# Altium footprint library my.PcbLib: 38 footprints (part 2 of 3)
Each footprint in its own frame and in the unit in brackets; x right, y up, seen from the top. Pads: shape width x height; smd on the part's side, far side on the other; paste and mask are expansions set on the pad; w line width, h text height; cw(c..) or ccw(c..) is an arc to the next point about the centre after c.
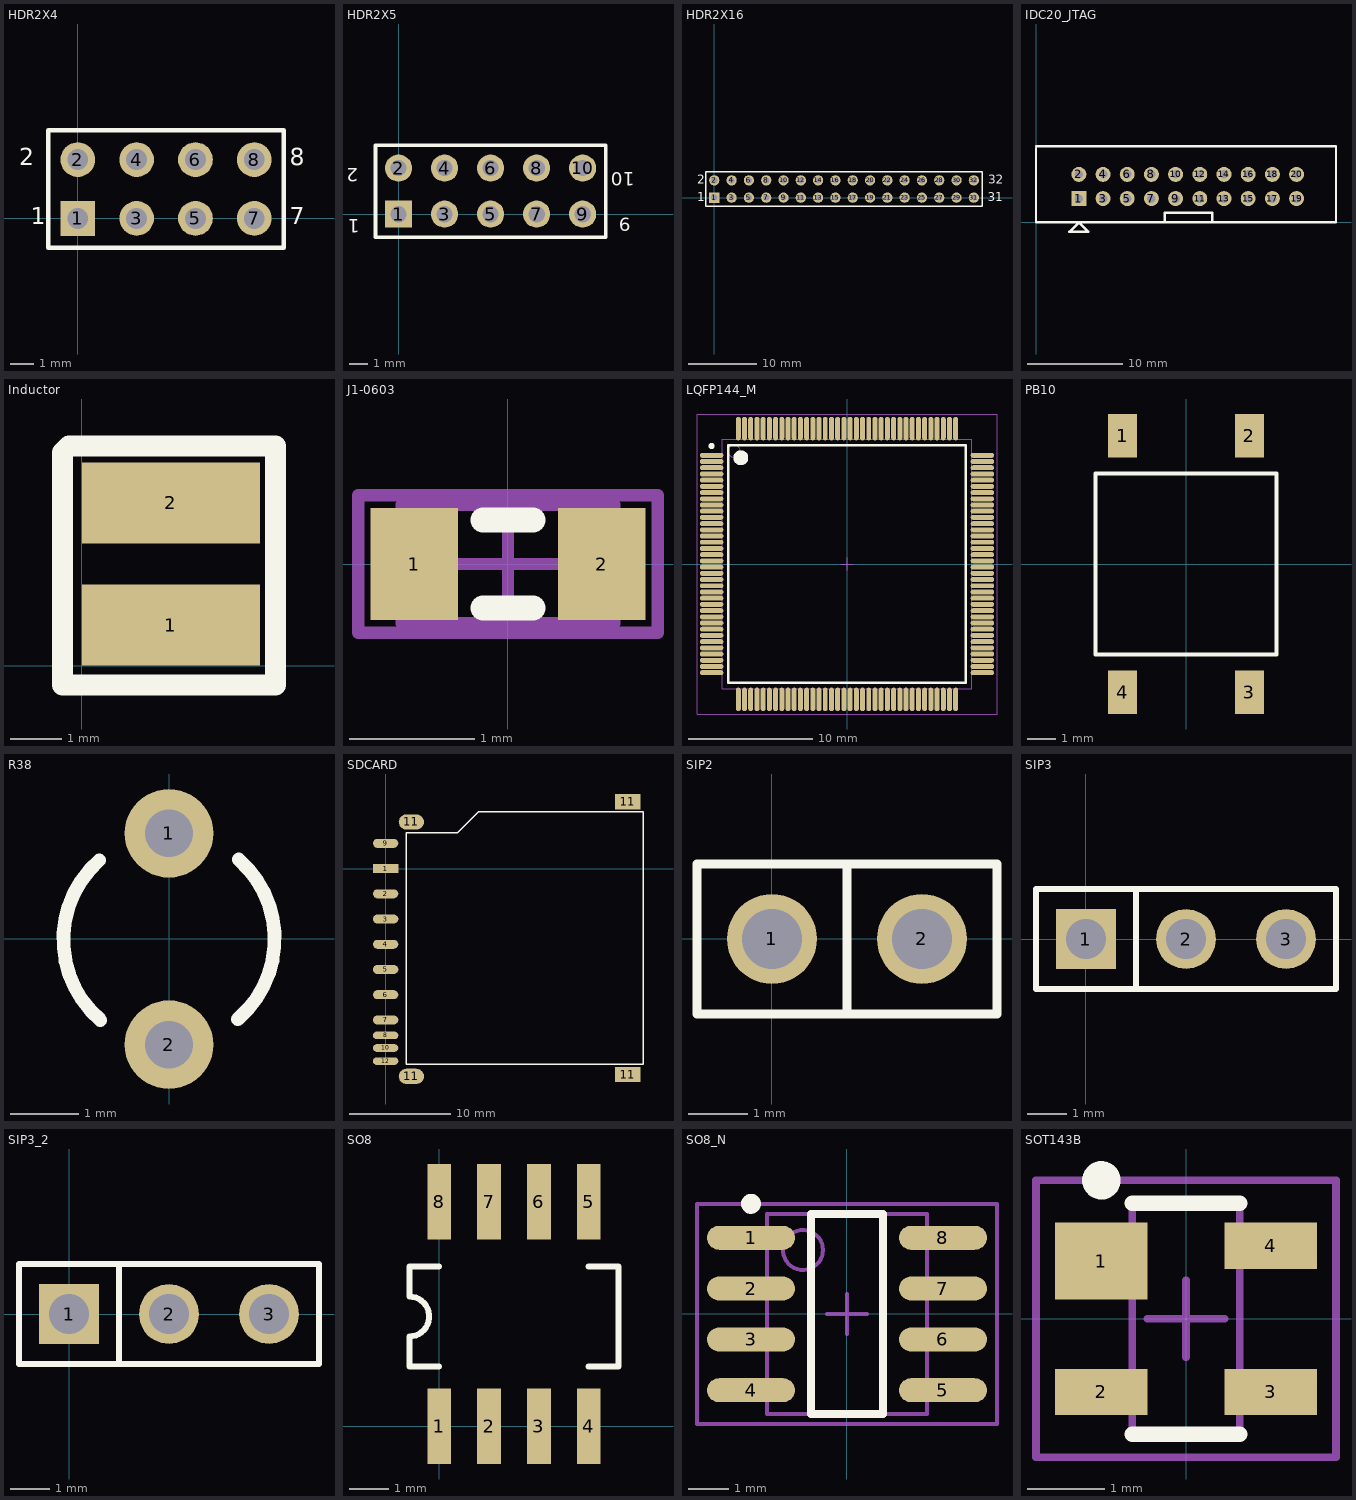
[diagram p1: the footprints below, top view; thin cyan lines are the x and y axes]

## HDR2X4 [mm] "Connector; Header; 4x2 Position"
pads (8):
  rect 1.5x1.5 hole 0.9: 1(0,0)
  round 1.5 hole 0.9: 2(0,2.54) 3(2.54,0) 4(2.54,2.54) 5(5.08,0) 6(5.08,2.54) 7(7.62,0) 8(7.62,2.54)
Top Overlay:
  lines w0.2: -1.27,-1.27 -1.27,3.81 8.89,3.81 8.89,-1.27 -1.27,-1.27
  text "8" at 9.144,2.032 h1.27
  text "7" at 9.144,-0.508 h1.27
  text "1" at -2.032,-0.508 h1.27
  text "2" at -2.54,2.032 h1.27

## HDR2X5 [mm] "Connector; Header; 5x2 Position"
pads (10):
  rect 1.5x1.5 hole 0.9: 1(0,0)
  round 1.5 hole 0.9: 2(0,2.54) 3(2.54,0) 4(2.54,2.54) 5(5.08,0) 6(5.08,2.54) 7(7.62,0) 8(7.62,2.54) 9(10.16,0) 10(10.16,2.54)
Top Overlay:
  lines w0.2: -1.27,-1.27 11.43,-1.27 11.43,3.81 -1.27,3.81 -1.27,-1.27
  text "10" at 13.051,2.561 h1.27
  text "9" at 12.811,0.041 h1.27
  text "1" at -2.139,-0.029 h1.27
  text "2" at -2.239,2.771 h1.27

## HDR2X16 [mm] "Connector; Header; 16x2 Position"
pads (32):
  rect 1.5x1.5 hole 0.9: 1(0,0)
  round 1.5 hole 0.9: 2(0,2.54) 3(2.54,0) 4(2.54,2.54) 5(5.08,0) 6(5.08,2.54) 7(7.62,0) 8(7.62,2.54) 9(10.16,0) 10(10.16,2.54) 11(12.7,0) 12(12.7,2.54) 13(15.24,0) 14(15.24,2.54) 15(17.78,0) 16(17.78,2.54) 17(20.32,0) 18(20.32,2.54) 19(22.86,0) 20(22.86,2.54) 21(25.4,0) 22(25.4,2.54) 23(27.94,0) 24(27.94,2.54) 25(30.48,0) 26(30.48,2.54) 27(33.02,0) 28(33.02,2.54) 29(35.56,0) 30(35.56,2.54) 31(38.1,0) 32(38.1,2.54)
Top Overlay:
  lines w0.2: -1.27,-1.27 39.37,-1.27 39.37,3.81 -1.27,3.81 -1.27,-1.27
  text "2" at -2.54,2.032 h1.27
  text "1" at -2.54,-0.508 h1.27
  text "31" at 40.111,-0.547 h1.27
  text "32" at 40.231,2.023 h1.27

## IDC20_JTAG [mil] "for 20-pin JTAG"
pads (20):
  rect 62x62 hole 35: 1(177.16,98.43)
  round 62 hole 35: 2(177.16,198.43) 3(277.16,98.43) 4(277.16,198.43) 5(377.16,98.43) 6(377.16,198.43) 7(477.16,98.43) 8(477.16,198.43) 9(577.16,98.43) 10(577.16,198.43) 11(677.16,98.43) 12(677.16,198.43) 13(777.16,98.43) 14(777.16,198.43) 15(877.16,98.43) 16(877.16,198.43) 17(977.16,98.43) 18(977.16,198.43) 19(1077.16,98.43) 20(1077.16,198.43)
Top Overlay:
  lines w10: 0,307.09 0,0 1240.16,0 1240.16,98.43 1240.16,216.54 1240.16,314.96 0,314.96 ; 531.5,0 531.5,39.37 728.35,39.37 728.35,0 ; 137.79,-39.37 196.85,-39.37 216.53,-39.37 177.16,0 137.79,-39.37

## Inductor [mm]
pads (2):
  rect 3.5x1.6 smd: 1(1.75,0.8) 2(1.75,3.2)
Top Overlay:
  lines w0.41: -0.381,-0.381 -0.381,4.191 -0.254,4.318 3.81,4.318 3.81,-0.381 -0.381,-0.381

## J1-0603 [mm] "Chip Resistor, Body 1.6x0.8mm, IPC High Density"
height 0.9
pads (2):
  rect 0.7x0.9 smd: 1(-0.75,0) 2(0.75,0)
Top Overlay:
  lines w0.2: -0.2,-0.35 0.2,-0.35 ; -0.2,0.35 0.2,0.35
Mechanical 13:
  lines w0.1: -0.85,-0.475 0.85,-0.475 0.85,0.475 -0.85,0.475 -0.85,-0.475
Mechanical 15:
  lines w0.1: -0.475,0 0.475,0 ; 0,-0.475 0,0.475 ; -1.2,-0.55 1.2,-0.55 1.2,0.55 -1.2,0.55 -1.2,-0.55
3D body: height 0.9, standoff 0, extent -0.85,-0.475 0.85,0.475

## LQFP144_M [mm] "TSQFP, 144-Leads, Body 23.0x23.0mm (max), Pitch 0.50mm, IPC Medium Density"
height 1.6
pads (144):
  oval 1.9x0.4 smd: 1(-10.9,8.75) 2(-10.9,8.25) 3(-10.9,7.75) 4(-10.9,7.25) 5(-10.9,6.75) 6(-10.9,6.25) 7(-10.9,5.75) 8(-10.9,5.25) 9(-10.9,4.75) 10(-10.9,4.25) 11(-10.9,3.75) 12(-10.9,3.25) 13(-10.9,2.75) 14(-10.9,2.25) 15(-10.9,1.75) 16(-10.9,1.25) 17(-10.9,0.75) 18(-10.9,0.25) 19(-10.9,-0.25) 20(-10.9,-0.75) 21(-10.9,-1.25) 22(-10.9,-1.75) 23(-10.9,-2.25) 24(-10.9,-2.75) 25(-10.9,-3.25) 26(-10.9,-3.75) 27(-10.9,-4.25) 28(-10.9,-4.75) 29(-10.9,-5.25) 30(-10.9,-5.75) 31(-10.9,-6.25) 32(-10.9,-6.75) 33(-10.9,-7.25) 34(-10.9,-7.75) 35(-10.9,-8.25) 36(-10.9,-8.75) 73(10.9,-8.75) 74(10.9,-8.25) 75(10.9,-7.75) 76(10.9,-7.25) 77(10.9,-6.75) 78(10.9,-6.25) 79(10.9,-5.75) 80(10.9,-5.25) 81(10.9,-4.75) 82(10.9,-4.25) 83(10.9,-3.75) 84(10.9,-3.25) 85(10.9,-2.75) 86(10.9,-2.25) 87(10.9,-1.75) 88(10.9,-1.25) 89(10.9,-0.75) 90(10.9,-0.25) 91(10.9,0.25) 92(10.9,0.75) 93(10.9,1.25) 94(10.9,1.75) 95(10.9,2.25) 96(10.9,2.75) 97(10.9,3.25) 98(10.9,3.75) 99(10.9,4.25) 100(10.9,4.75) 101(10.9,5.25) 102(10.9,5.75) 103(10.9,6.25) 104(10.9,6.75) 105(10.9,7.25) 106(10.9,7.75) 107(10.9,8.25) 108(10.9,8.75)
  oval 0.4x1.9 smd: 37(-8.75,-10.9) 38(-8.25,-10.9) 39(-7.75,-10.9) 40(-7.25,-10.9) 41(-6.75,-10.9) 42(-6.25,-10.9) 43(-5.75,-10.9) 44(-5.25,-10.9) 45(-4.75,-10.9) 46(-4.25,-10.9) 47(-3.75,-10.9) 48(-3.25,-10.9) 49(-2.75,-10.9) 50(-2.25,-10.9) 51(-1.75,-10.9) 52(-1.25,-10.9) 53(-0.75,-10.9) 54(-0.25,-10.9) 55(0.25,-10.9) 56(0.75,-10.9) 57(1.25,-10.9) 58(1.75,-10.9) 59(2.25,-10.9) 60(2.75,-10.9) 61(3.25,-10.9) 62(3.75,-10.9) 63(4.25,-10.9) 64(4.75,-10.9) 65(5.25,-10.9) 66(5.75,-10.9) 67(6.25,-10.9) 68(6.75,-10.9) 69(7.25,-10.9) 70(7.75,-10.9) 71(8.25,-10.9) 72(8.75,-10.9) 109(8.75,10.9) 110(8.25,10.9) 111(7.75,10.9) 112(7.25,10.9) 113(6.75,10.9) 114(6.25,10.9) 115(5.75,10.9) 116(5.25,10.9) 117(4.75,10.9) 118(4.25,10.9) 119(3.75,10.9) 120(3.25,10.9) 121(2.75,10.9) 122(2.25,10.9) 123(1.75,10.9) 124(1.25,10.9) 125(0.75,10.9) 126(0.25,10.9) 127(-0.25,10.9) 128(-0.75,10.9) 129(-1.25,10.9) 130(-1.75,10.9) 131(-2.25,10.9) 132(-2.75,10.9) 133(-3.25,10.9) 134(-3.75,10.9) 135(-4.25,10.9) 136(-4.75,10.9) 137(-5.25,10.9) 138(-5.75,10.9) 139(-6.25,10.9) 140(-6.75,10.9) 141(-7.25,10.9) 142(-7.75,10.9) 143(-8.25,10.9) 144(-8.75,10.9)
Top Overlay:
  circle w0.6: c-8.55,8.55 r0.3
  circle w0.25: c-10.9,9.5 r0.125
  lines w0.2: -9.55,-9.55 9.55,-9.55 9.55,9.55 -9.55,9.55 -9.55,-9.55
Mechanical 13:
  circle w0.1: c-9.1,9.1 r0.5
  lines w0.1: -10.05,-10.05 10.05,-10.05 10.05,10.05 -10.05,10.05 -10.05,-10.05
Mechanical 15:
  lines w0.1: -0.5,0 0.5,0 ; 0,-0.5 0,0.5 ; -12.075,-12.075 12.075,-12.075 12.075,12.075 -12.075,12.075 -12.075,-12.075
3D body: height 1.6, standoff 0.05, extent -10.05,-10.05 10.05,10.05

## PB10 [mil]
pads (4):
  rect 40x60 smd: 1(-87.5,177.17) 2(87.5,177.17) 3(87.5,-177.16) 4(-87.5,-177.16)
Top Overlay:
  lines w6: -125,-125 -125,125 125,125 125,-125 -125,-125

## R38 [mm] "Crystal, Thru-Hole; 2 Leads; Body 3.1 x 8.2 mm (Dia.xH)"
height 8.2
pads (2):
  round 1.3 hole 0.7: 1(0,1.55) 2(0,-1.55)
Top Overlay:
  lines w0.2: -1.022,1.155 ccw(c0,-0.01) -1.006,-1.189 ; 1.006,-1.179 ccw(c0,0) 1.022,1.165

## SDCARD [mil]
pads (15):
  rect 98.42x35 smd: 1(0,0)
  oval 98.43x35 smd: 2(0,-98) 3(0,-196) 4(0,-294) 5(0,-392) 6(0,-490) 7(0,-588) 9(0,98)
  oval 98.42x30 smd: 8(0,-648) 10(0,-697) 12(0,-748)
  oval 98.42x59.05 smd: 11(100,-807.09) 11(100,181.1)
  rect 98.42x59.05 smd: 11(940,-800) 11(940,260)
Top Overlay:
  lines w6: 220,140 80,140 ; 780,220 1000,220 1000,-760 880,-760 ; 900,-760 80,-760 80,140 ; 900,220 360,220 280,140 80,140

## SIP2 [mil]
pads (2):
  round 60 hole 40: 1(0,0) 2(100,0)
Top Overlay:
  lines w6: 50.04,-50.04 50.04,49.96 ; -49.96,-50.04 -49.96,49.96 150.04,49.96 150.04,-50.04 -49.96,-50.04

## SIP3 [mil]
pads (3):
  rect 60x60 hole 40: 1(0,0)
  round 60 hole 40: 2(100,0) 3(200,0)
Top Overlay:
  lines w6: 50,-50 50,50 ; -50,-50 -50,50 250,50 250,-50 -50,-50

## SIP3_2 [mil]
pads (3):
  rect 60x60 hole 40: 1(0,0)
  round 60 hole 40: 2(100,0) 3(200,0)
Top Overlay:
  lines w6: 50,-50 50,50 ; -50,-50 -50,50 250,50 250,-50 -50,-50

## SO8 [mil]
pads (8):
  rect 24x76 smd: 1(0,0) 2(50,0) 3(100,0) 4(150,0) 5(150,225) 6(100,225) 7(50,225) 8(0,225)
Top Overlay:
  lines w6: 0,60 -30,60 -30,90 ccw(c-30,110) -30,130 -30,160 0,160 ; 150,60 180,60 180,160 150,160

## SO8_N [mm] "SOIC, 8-Leads, Body 4.9x3.9mm, Pitch 1.27mm, IPC Medium Density"
height 1.75
pads (8):
  oval 2.2x0.6 smd: 1(-2.4,1.905) 2(-2.4,0.635) 3(-2.4,-0.635) 4(-2.4,-1.905) 5(2.4,-1.905) 6(2.4,-0.635) 7(2.4,0.635) 8(2.4,1.905)
Top Overlay:
  circle w0.25: c-2.4,2.755 r0.125
  lines w0.2: -0.9,-2.5 -0.9,2.5 0.9,2.5 0.9,-2.5 -0.9,-2.5
Mechanical 13:
  circle w0.1: c-1.1,1.6 r0.5
  lines w0.1: -2,-2.5 -2,2.5 2,2.5 2,-2.5 -2,-2.5
Mechanical 15:
  lines w0.1: -0.5,0 0.5,0 ; 0,-0.5 0,0.5 ; -3.75,-2.75 -3.75,2.75 3.75,2.75 3.75,-2.75 -3.75,-2.75
3D body: height 1.75, standoff 0, extent -2,-2.5 2,2.5

## SOT143B [mm] "SOT143, 4-Leads, Body 3.0x2.6mm (max), Pitch 1.90mm, IPC Medium Density"
height 1.2
pads (4):
  rect 1.2x1 smd: 1(-1.1,0.75)
  rect 1.2x0.6 smd: 2(-1.1,-0.95) 3(1.1,-0.95) 4(1.1,0.95)
Top Overlay:
  circle w0.25: c-1.1,1.8 r0.125
  lines w0.2: -0.7,-1.5 0.7,-1.5 ; -0.7,1.5 0.7,1.5
Mechanical 13:
  lines w0.1: -0.7,-1.52 -0.7,1.52 0.7,1.52 0.7,-1.52 -0.7,-1.52
Mechanical 15:
  lines w0.1: -0.5,0 0.5,0 ; 0,-0.5 0,0.5 ; -1.95,-1.8 -1.95,1.8 1.95,1.8 1.95,-1.8 -1.95,-1.8
3D body: height 1.2, standoff 0.15, extent -0.7,-1.52 0.7,1.52